# Altium footprint library MainPCB1.PcbLib: 49 footprints (part 1 of 4)
Each footprint in its own frame and in the unit in brackets; x right, y up, seen from the top. Pads: shape width x height; smd on the part's side, far side on the other; paste and mask are expansions set on the pad; w line width, h text height; cw(c..) or ccw(c..) is an arc to the next point about the centre after c.
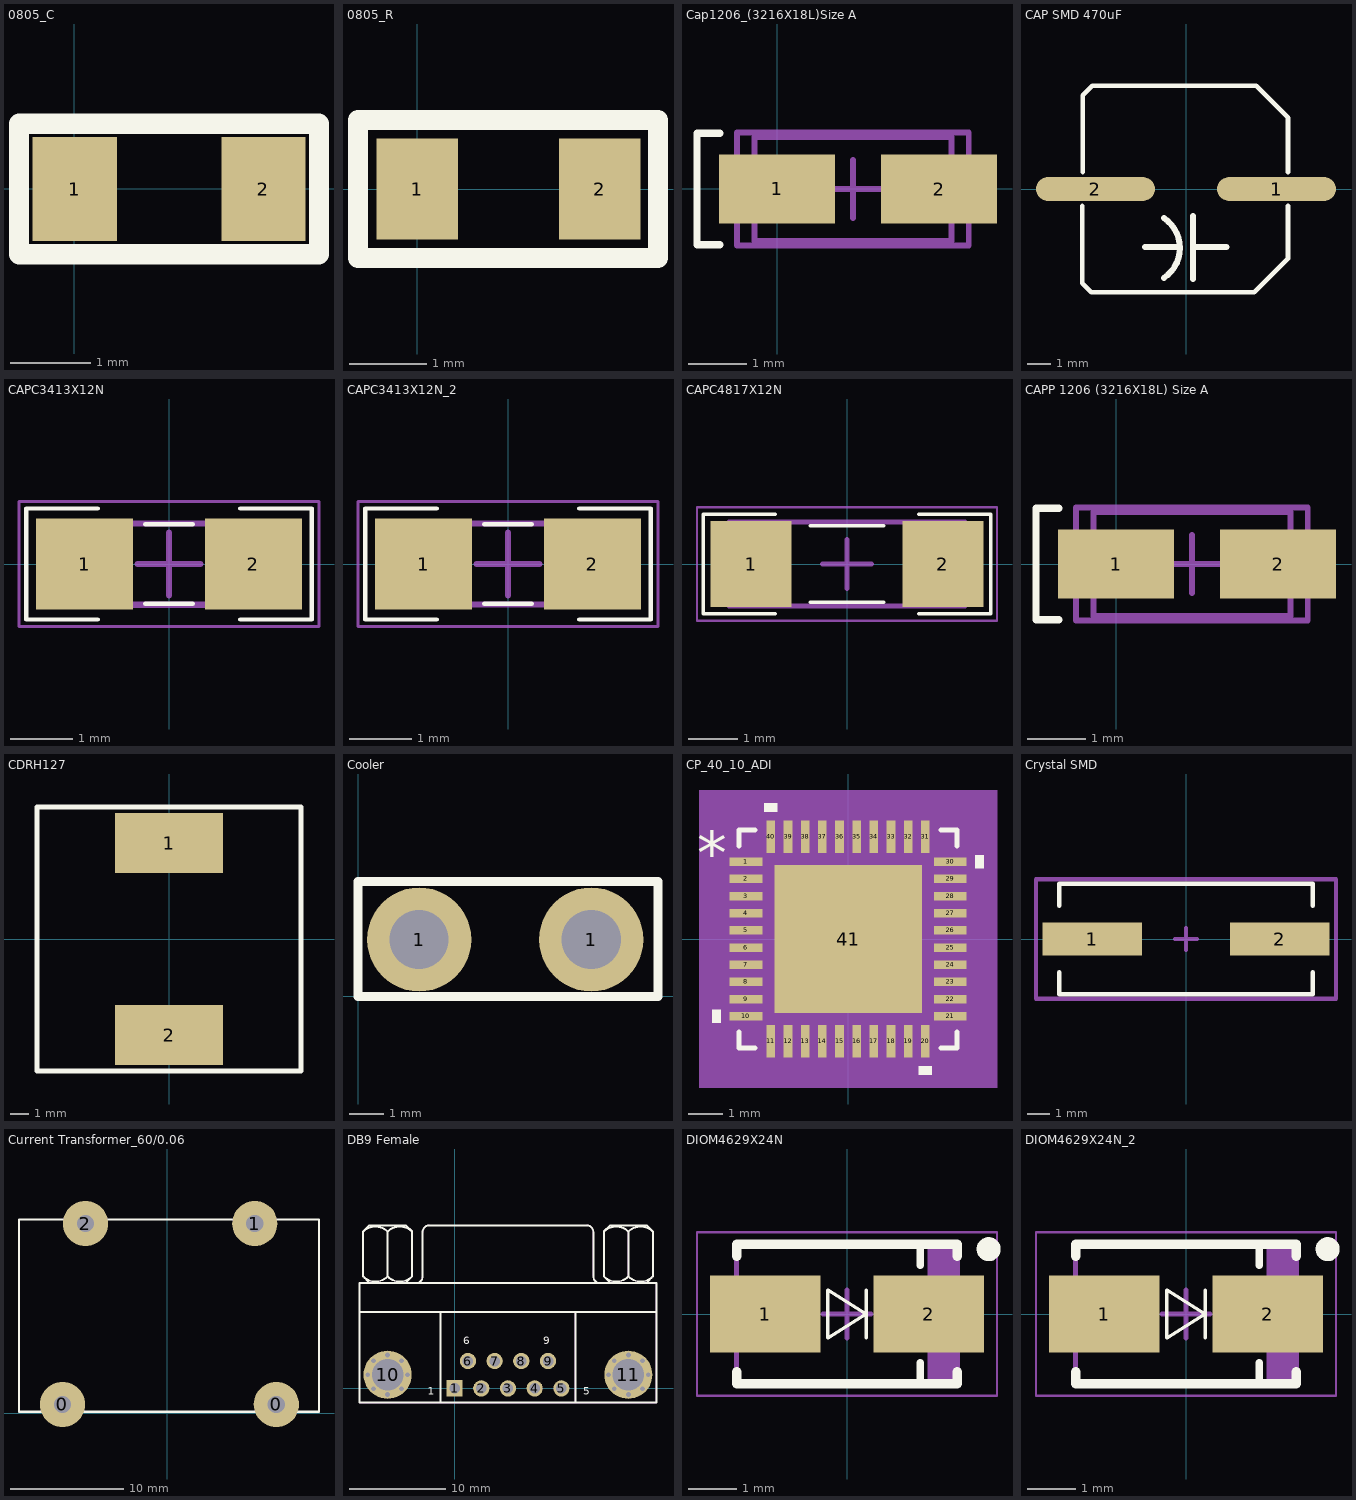
[diagram p0: the footprints below, top view; thin cyan lines are the x and y axes]

## 0805_C [mm]
pads (2):
  rect 1.05x1.3 smd: 1(0.007,0) 2(2.357,0)
Top Overlay:
  lines w0.254: -0.686,-0.813 -0.686,0.813 3.048,0.813 3.048,-0.813 -0.686,-0.813
3D body "SW3dPS-0805 SMD Capacitor.STEP": height 0.78, standoff 0, extent 0.194,-0.625 2.194,0.625

## 0805_R [mm]
pads (2):
  rect 1.05x1.3 smd: 1(0,0) 2(2.35,0)
Top Overlay:
  lines w0.254: -0.762,-0.889 3.099,-0.889 3.099,0.889 -0.762,0.889 -0.762,-0.889
3D body "User Library-RES_2013-0805.STEP": height 0.76, standoff 0, extent 0.069,-0.675 2.369,0.675

## Cap1206_(3216X18L)Size A [mm] "Chip Capacitor, 2-Leads, Body 3.2x1.6mm, IPC High Density, chip Tantalum"
height 1.8
pads (2):
  rect 1.999x1.199 smd: 1(0,0) 2(2.8,0)
Top Overlay:
  lines w0.127: -0.988,-0.965 -1.382,-0.965 -1.382,0.965 -0.988,0.965
Mechanical 13:
  lines w0.1: -0.389,-0.9 3.011,-0.9 3.011,0.9 -0.389,0.9 -0.389,-0.9
Mechanical 15:
  lines w0.1: 0.811,0 1.811,0 ; 1.311,-0.5 1.311,0.5 ; -0.689,-0.975 -0.689,0.975 3.311,0.975 3.311,-0.975 -0.689,-0.975
3D body "SW3dPS-Solid Tantalum Chip Capacitor Size (A-3216-18).STEP": height 1.8, standoff 0, extent -0.429,-0.902 3.21,0.902

## CAP SMD 470uF [mm] "SMD CAP 470uF"
pads (2):
  oval 5x1 smd: 1(3.81,0) 2(-3.81,0)
Top Overlay:
  lines w0.2: -4.369,-0.711 -4.369,-3.962 -3.988,-4.343 2.87,-4.343 4.293,-2.921 4.293,-0.711 ; -4.343,0.711 -4.343,3.937 -3.937,4.343 2.946,4.343 4.293,2.997 4.293,0.711
  lines w0.254: -1.715,-2.447 -0.365,-2.447 ; -0.935,-3.737 ccw(c-1.753,-2.48) -0.927,-1.227 ; 0.285,-3.777 0.285,-1.137 ; 0.365,-2.447 1.705,-2.447
3D body "User Library-SMD Polymer Aluminum Electrolytic Capacitors E12 470uF 6,3V.step": height 12, standoff 0.05, extent -4.53,-4.15 4.47,4.15

## CAPC3413X12N [mm] "Chip Capacitor, 2-Leads, Body 3/40x1/30mm, IPC Medium Density-Design:Abbas Basereh"
height 1.2
pads (2):
  rect 1.55x1.45 smd: 1(-1.35,0) 2(1.35,0)
Top Overlay:
  lines w0.07: -1.143,-0.889 -2.286,-0.889 -2.286,0.889 -1.143,0.889 ; -0.381,-0.635 0.381,-0.635 ; -0.381,0.635 0.381,0.635 ; 1.143,-0.889 2.286,-0.889 2.286,0.889 1.143,0.889
Mechanical 13:
  lines w0.1: -1.7,-0.65 1.7,-0.65 1.7,0.65 -1.7,0.65 -1.7,-0.65
Mechanical 15:
  lines w0.05: -2.4,-1 2.4,-1 2.4,1 -2.4,1 -2.4,-1
  lines w0.1: -0.5,0 0.5,0 ; 0,-0.5 0,0.5
3D body "SW3dPS-0805 SMD Capacitor.STEP": height 0.78, standoff 0, extent -1,-0.625 1,0.625

## CAPC3413X12N_2 [mm]
pads (2):
  rect 1.55x1.45 smd: 1(-1.35,0) 2(1.35,0)
Top Overlay:
  lines w0.07: -1.143,-0.889 -2.286,-0.889 -2.286,0.889 -1.143,0.889 ; -0.381,-0.635 0.381,-0.635 ; -0.381,0.635 0.381,0.635 ; 1.143,-0.889 2.286,-0.889 2.286,0.889 1.143,0.889
Mechanical 13:
  lines w0.1: -1.7,-0.65 -1.7,0.65 1.7,0.65 1.7,-0.65 -1.7,-0.65
Mechanical 15:
  lines w0.05: -2.4,-1 -2.4,1 2.4,1 2.4,-1 -2.4,-1
  lines w0.1: -0.5,0 0.5,0 ; 0,-0.5 0,0.5
3D body "SW3dPS-0805 SMD Capacitor.STEP": height 0.78, standoff 0, extent -1,-0.625 1,0.625

## CAPC4817X12N [mm] "Chip Capacitor, 2-Leads, Body 4/80x1/70mm, IPC Medium Density-Design:Abbas Basereh"
height 1.2
pads (2):
  rect 1.65x1.75 smd: 1(-1.95,0) 2(1.95,0)
Top Overlay:
  lines w0.07: -1.46,-1.016 -2.921,-1.016 -2.921,1.016 -1.46,1.016 ; -0.75,-0.775 0.75,-0.775 ; -0.75,0.775 0.75,0.775 ; 1.46,-1.016 2.921,-1.016 2.921,1.016 1.46,1.016
Mechanical 13:
  lines w0.1: -2.4,-0.85 -2.4,0.85 2.4,0.85 2.4,-0.85 -2.4,-0.85
Mechanical 15:
  lines w0.05: -3.05,-1.15 -3.05,1.15 3.05,1.15 3.05,-1.15 -3.05,-1.15
  lines w0.1: -0.5,0 0.5,0 ; 0,-0.5 0,0.5
3D body "SW3dPS-1206 SMD Capacitor.STEP": height 1, standoff 0, extent -1.6,-0.8 1.6,0.8

## CAPP 1206 (3216X18L) Size A [mm] "Chip Capacitor, 2-Leads, Body 3.2x1.6mm, IPC High Density, chip Tantalum"
height 1.8
pads (2):
  rect 1.999x1.199 smd: 1(0,0) 2(2.8,0)
Top Overlay:
  lines w0.127: -0.988,-0.965 -1.382,-0.965 -1.382,0.965 -0.988,0.965
Mechanical 13:
  lines w0.1: -0.389,-0.9 -0.389,0.9 3.011,0.9 3.011,-0.9 -0.389,-0.9
Mechanical 15:
  lines w0.1: 0.811,0 1.811,0 ; 1.311,-0.5 1.311,0.5 ; -0.689,-0.975 3.311,-0.975 3.311,0.975 -0.689,0.975 -0.689,-0.975
3D body "SW3dPS-Solid Tantalum Chip Capacitor Size (A-3216-18).STEP": height 1.8, standoff 0, extent -0.429,-0.902 3.21,0.902

## CDRH127 [mm]
height 10
pads (2):
  rect 5.715x3.175 smd: 1(0,5.08) 2(0,-5.08)
Top Overlay:
  lines w0.254: -6.985,-6.985 -6.985,6.985 6.985,6.985 6.985,-6.985 -6.985,-6.985
3D body "CDRH125_LD.step": height 6.23, standoff -0.02, extent -6,-6.171 6,6.171

## Cooler [mm]
pads (2):
  round 3 hole 1.7: 1(1.762,1.635) 1(6.715,1.635)
Top Overlay:
  lines w0.254: 0,0 0,3.302 8.636,3.302 8.636,0 0,0
3D body "1.stp": height 10.5, standoff -4, extent 0.068,1.397 8.568,1.897

## CP_40_10_ADI [mm]
pads (41):
  rect 0.948x0.25 smd paste+0 mask+0: 1(-2.974,2.25) 2(-2.974,1.75) 3(-2.974,1.25) 4(-2.974,0.75) 5(-2.974,0.25) 6(-2.974,-0.25) 7(-2.974,-0.75) 8(-2.974,-1.25) 9(-2.974,-1.75) 10(-2.974,-2.25) 21(2.974,-2.25) 22(2.974,-1.75) 23(2.974,-1.25) 24(2.974,-0.75) 25(2.974,-0.25) 26(2.974,0.25) 27(2.974,0.75) 28(2.974,1.25) 29(2.974,1.75) 30(2.974,2.25)
  rect 0.25x0.948 smd paste+0 mask+0: 11(-2.25,-2.974) 12(-1.75,-2.974) 13(-1.25,-2.974) 14(-0.75,-2.974) 15(-0.25,-2.974) 16(0.25,-2.974) 17(0.75,-2.974) 18(1.25,-2.974) 19(1.75,-2.974) 20(2.25,-2.974) 31(2.25,2.974) 32(1.75,2.974) 33(1.25,2.974) 34(0.75,2.974) 35(0.25,2.974) 36(-0.25,2.974) 37(-0.75,2.974) 38(-1.25,2.974) 39(-1.75,2.974) 40(-2.25,2.974)
  rect 4.3x4.3 smd paste-2.137 mask+0: 41(0,0)
Top Overlay:
  region: -3.702,-2.06 -3.956,-2.06 -3.956,-2.441 -3.702,-2.441
  region: 2.441,-3.702 2.06,-3.702 2.06,-3.956 2.441,-3.956
  region: 3.702,2.441 3.956,2.441 3.956,2.06 3.702,2.06
  region: -2.06,3.702 -2.441,3.702 -2.441,3.956 -2.06,3.956
  lines w0.152: -3.175,-2.708 -3.175,-3.175 -2.708,-3.175 ; -3.175,2.708 -3.175,3.175 -2.708,3.175 ; 2.708,-3.175 3.175,-3.175 3.175,-2.708 ; 2.708,3.175 3.175,3.175 3.175,2.708
  text "*" at -4.4,1.865 h1.27
Top Paste:
  region: -0.817,2.05 -2.05,2.05 -2.05,0.817 -0.817,0.817
  region: -0.817,0.617 -2.05,0.617 -2.05,-0.617 -0.817,-0.617
  region: -0.817,-0.817 -2.05,-0.817 -2.05,-2.05 -0.817,-2.05
  region: 0.617,2.05 -0.617,2.05 -0.617,0.817 0.617,0.817
  region: 0.617,0.617 -0.617,0.617 -0.617,-0.617 0.617,-0.617
  region: 0.617,-0.817 -0.617,-0.817 -0.617,-2.05 0.617,-2.05
  region: 2.05,2.05 0.817,2.05 0.817,0.817 2.05,0.817
  region: 2.05,0.617 0.817,0.617 0.817,-0.617 2.05,-0.617
  region: 2.05,-0.817 0.817,-0.817 0.817,-2.05 2.05,-2.05
Mechanical 5:
  region: 4.337,-4.337 -4.337,-4.337 -4.337,4.337 4.337,4.337
Mechanical 13:
  lines w0.025: -3.048,1.778 -1.778,3.048 ; -3.048,-3.048 3.048,-3.048 3.048,3.048 -3.048,3.048 -3.048,-3.048 ; -3.048,-2.4 -3.048,-2.1 -3.048,-2.4 ; -3.048,-1.9 -3.048,-1.6 -3.048,-1.9 ; -3.048,-1.4 -3.048,-1.1 -3.048,-1.4 ; -3.048,-0.9 -3.048,-0.6 -3.048,-0.9 ; -3.048,-0.4 -3.048,-0.1 -3.048,-0.4 ; -3.048,0.1 -3.048,0.4 -3.048,0.1 ; -3.048,0.6 -3.048,0.9 -3.048,0.6 ; -3.048,1.1 -3.048,1.4 -3.048,1.1 ; -3.048,1.6 -3.048,1.9 -3.048,1.6 ; -3.048,2.1 -3.048,2.4 -3.048,2.1 ; -2.4,-3.048 -2.1,-3.048 -2.4,-3.048 ; -2.4,3.048 -2.1,3.048 -2.4,3.048 ; -1.9,-3.048 -1.6,-3.048 -1.9,-3.048 ; -1.9,3.048 -1.6,3.048 -1.9,3.048 ; -1.4,-3.048 -1.1,-3.048 -1.4,-3.048 ; -1.4,3.048 -1.1,3.048 -1.4,3.048 ; -0.9,-3.048 -0.6,-3.048 -0.9,-3.048 ; -0.9,3.048 -0.6,3.048 -0.9,3.048 ; -0.4,-3.048 -0.1,-3.048 -0.4,-3.048 ; -0.4,3.048 -0.1,3.048 -0.4,3.048 ; 0.1,-3.048 0.4,-3.048 0.1,-3.048 ; 0.1,3.048 0.4,3.048 0.1,3.048 ; 0.6,-3.048 0.9,-3.048 0.6,-3.048 ; 0.6,3.048 0.9,3.048 0.6,3.048 ; 1.1,-3.048 1.4,-3.048 1.1,-3.048 ; 1.1,3.048 1.4,3.048 1.1,3.048 ; 1.6,-3.048 1.9,-3.048 1.6,-3.048 ; 1.6,3.048 1.9,3.048 1.6,3.048 ; 2.1,-3.048 2.4,-3.048 2.1,-3.048 ; 2.1,3.048 2.4,3.048 2.1,3.048 ; 3.048,-2.4 3.048,-2.1 3.048,-2.4 ; 3.048,-1.9 3.048,-1.6 3.048,-1.9 ; 3.048,-1.4 3.048,-1.1 3.048,-1.4 ; 3.048,-0.9 3.048,-0.6 3.048,-0.9 ; 3.048,-0.4 3.048,-0.1 3.048,-0.4 ; 3.048,0.1 3.048,0.4 3.048,0.1 ; 3.048,0.6 3.048,0.9 3.048,0.6 ; 3.048,1.1 3.048,1.4 3.048,1.1 ; 3.048,1.6 3.048,1.9 3.048,1.6 ; 3.048,2.1 3.048,2.4 3.048,2.1
  text "*" at -2.818,1.865 h1.27
Mechanical 15:
  region: -2.883,-3.556 -3.556,-3.556 -3.556,-2.883 -3.956,-2.883 -3.956,2.883 -3.556,2.883 -3.556,3.556 -2.883,3.556 -2.883,3.956 2.883,3.956 2.883,3.556 3.556,3.556 3.556,2.883 3.956,2.883 3.956,-2.883 3.556,-2.883 3.556,-3.556 2.883,-3.556 2.883,-3.956 -2.883,-3.956
  lines w0.152: -3.956,-2.883 -3.556,-2.883 -3.556,-3.556 -2.883,-3.556 -2.883,-3.956 2.883,-3.956 2.883,-3.556 3.556,-3.556 3.556,-2.883 3.956,-2.883 3.956,2.883 3.556,2.883 3.556,3.556 2.883,3.556 2.883,3.956 -2.883,3.956 -2.883,3.556 -3.556,3.556 -3.556,2.883 -3.956,2.883 -3.956,-2.883
3D body "CP_40_10_ADI.step": height 0.8, standoff 0, extent -3.048,-3.048 3.048,3.048

## Crystal SMD [mm] "DESIGNER ABBAS BASEREH"
height 4
pads (2):
  rect 4.5x1.5 smd: 1(-4.25,0) 2(4.25,0)
Top Overlay:
  lines w0.2: -5.75,-1.5 -5.75,-2.5 5.75,-2.5 5.75,-1.5 ; -5.75,1.5 -5.75,2.5 5.75,2.5 5.75,1.5
Mechanical 15:
  lines w0.2: -0.5,0 0.5,0 ; 0,-0.5 0,0.5 ; -6.8,-2.7 -6.8,2.7 6.8,2.7 6.8,-2.7 -6.8,-2.7
3D body "User Library-HC49_SMD.STEP": height 5.18, standoff 0, extent -6.209,-2.25 6.091,2.25

## Current Transformer_60/0.06 [mil]
pads (4):
  round 157.48 hole 60: 0(-365,30) 0(380,30) 1(305,660) 2(-285,660)
Top Overlay:
  lines w7.87: -516.41,4.16 526.9,4.16 ; -516.41,4.87 -516.41,674.16 526.9,674.16 ; 528.59,4.87 528.59,674.16
3D body "12.stp": height 1122.2, standoff -145.67, extent -511.65,5 531.65,678.28

## DB9 Female [mm] "Connector; D Subminiature AMPLIMITE 2000; 9 Position; Right Angle"
height 12.75
pads (27):
  rect 1.69x1.69 hole 1.09: 1(0,0)
  round 1.69 hole 1.09: 2(2.77,0) 3(5.54,0) 4(8.31,0) 5(11.08,0) 6(1.385,2.84) 7(4.155,2.84) 8(6.925,2.84) 9(9.695,2.84)
  round 0.8 hole 0.5 mask+0.102: 10(-9.015,1.42) 10(-8.412,-0.037) 10(-8.412,2.877) 10(-6.955,-0.64) 10(-6.955,3.48) 10(-5.498,-0.037) 10(-5.498,2.877) 10(-4.895,1.42) 11(15.975,1.42) 11(16.578,-0.037) 11(16.578,2.877) 11(18.035,-0.64) 11(18.035,3.48) 11(19.492,-0.037) 11(19.492,2.877) 11(20.095,1.42)
  round 5 hole 3.26 mask+0.102: 10(-6.955,1.42) 11(18.035,1.42)
Top Overlay:
  lines w0.2: -9.86,7.92 20.94,7.92 ; -9.498,16.27 -9.498,11.619 -8.863,10.984 ; -9.498,16.285 -8.863,16.92 -5.053,16.92 -4.418,16.285 ; -6.958,11.619 -6.958,16.27 ; -5.053,10.984 -4.418,11.619 -4.418,16.27 ; -4.418,15.006 -4.418,15.218 ; -4.02,10.925 ccw(c-4.02,11.62) -3.325,11.62 -3.325,16.22 ; -3.32,16.225 cw(c-2.625,16.225) -2.625,16.92 13.705,16.92 cw(c13.705,16.225) 14.4,16.225 ; -1.46,-1.48 -1.46,7.92 ; 12.54,-1.48 12.54,7.92 ; 14.405,16.22 14.405,11.62 ccw(c15.1,11.62) 15.1,10.925 ; 15.502,16.27 15.502,11.619 16.137,10.984 ; 15.502,16.285 16.137,16.92 19.947,16.92 20.582,16.285 ; 18.042,11.619 18.042,16.27 ; 19.947,10.984 20.582,11.619 20.582,16.27 ; 20.582,15.006 20.582,15.218 ; -9.86,-1.48 20.94,-1.48 20.94,10.92 -9.86,10.92 -9.86,-1.48
  lines w0.203: -9.5,11.617 ccw(c-8.228,12.889) -6.956,11.617 ; -9.498,16.27 cw(c-8.226,14.998) -6.953,16.27 ; -6.962,16.27 cw(c-5.69,14.998) -4.418,16.27 ; -6.96,11.617 ccw(c-5.688,12.889) -4.416,11.617 ; 15.5,11.617 ccw(c16.772,12.889) 18.044,11.617 ; 15.502,16.27 cw(c16.774,14.998) 18.047,16.27 ; 18.038,16.27 cw(c19.31,14.998) 20.582,16.27 ; 18.04,11.617 ccw(c19.312,12.889) 20.584,11.617
  text "1" at -2.794,-0.64 h0.8
  text "5" at 13.335,-0.64 h0.8
  text "9" at 9.2,4.6 h0.8
  text "6" at 0.9,4.6 h0.8
Mechanical 1:
  lines w0.1: -4.02,10.925 ccw(c-4.02,11.62) -3.325,11.62 ; -3.32,16.225 cw(c-2.625,16.225) -2.625,16.92 ; 13.705,16.92 cw(c13.705,16.225) 14.4,16.225 ; 14.405,11.62 ccw(c15.1,11.62) 15.1,10.925
Mechanical 13:
  lines w0.1: -9.86,7.92 20.94,7.92 ; -9.5,11.617 ccw(c-8.228,12.889) -6.956,11.617 ; -9.498,16.285 -8.863,16.92 -5.053,16.92 -4.418,16.285 ; -8.863,10.984 -9.498,11.619 -9.498,16.27 cw(c-8.226,14.998) -6.953,16.27 ; -6.962,16.27 cw(c-5.69,14.998) -4.418,16.27 -4.418,11.619 -5.053,10.984 ; -6.96,11.617 ccw(c-5.688,12.889) -4.416,11.617 ; -6.958,11.619 -6.958,16.27 ; -4.418,15.006 -4.418,15.218 ; -3.325,11.62 -3.325,16.22 ; -2.625,16.92 13.705,16.92 ; -1.46,-1.48 -1.46,7.92 ; 12.54,-1.48 12.54,7.92 ; 14.405,11.62 14.405,16.22 ; 15.5,11.617 ccw(c16.772,12.889) 18.044,11.617 ; 15.502,16.285 16.137,16.92 19.947,16.92 20.582,16.285 ; 16.137,10.984 15.502,11.619 15.502,16.27 cw(c16.774,14.998) 18.047,16.27 ; 18.038,16.27 cw(c19.31,14.998) 20.582,16.27 20.582,11.619 19.947,10.984 ; 18.04,11.617 ccw(c19.312,12.889) 20.584,11.617 ; 18.042,11.619 18.042,16.27 ; 20.582,15.006 20.582,15.218 ; -9.86,-1.48 20.94,-1.48 20.94,10.92 -9.86,10.92 -9.86,-1.48
3D body "9-PIN_DSUB-1.STEP": height 12.71, standoff -3.01, extent -9.865,-2.034 20.945,17.041

## DIOM4629X24N [mm] "Molded Diode, 2-Leads, Body 4/60x2/90mm, IPC Medium Density-Design:Abbas Basereh"
height 2.43
pads (2):
  rect 2.3x1.6 smd: 1(-1.7,0) 2(1.7,0)
Top Overlay:
  circle w0.25: c2.95,1.35 r0.125
  lines w0.07: 0.4,-0.5 0.4,0.5 ; -0.4,-0.5 -0.4,0.5 0.4,0 -0.4,-0.5
  lines w0.15: 1.524,-1.45 1.524,-1.016 ; 1.524,1.016 1.524,1.397
  lines w0.2: -2.3,-1.2 -2.3,-1.45 2.3,-1.45 2.3,-1.2 ; -2.3,1.2 -2.3,1.45 2.3,1.45 2.3,1.2
Mechanical 13:
  rectangle: 1.681,-1.45 2.3,1.45
  lines w0.1: -2.3,-1.45 -2.3,1.45 2.3,1.45 2.3,-1.45 -2.3,-1.45
Mechanical 15:
  lines w0.05: -3.125,-1.7 -3.125,1.7 3.125,1.7 3.125,-1.7 -3.125,-1.7
  lines w0.1: -0.5,0 0.5,0 ; 0,-0.5 0,0.5
3D body "User Library-DO-214AC_SMA.STEP": height 2.2, standoff 0, extent -2.5,-1.223 2.5,1.477

## DIOM4629X24N_2 [mm]
pads (2):
  rect 2.3x1.6 smd: 1(-1.7,0) 2(1.7,0)
Top Overlay:
  circle w0.25: c2.95,1.35 r0.125
  lines w0.07: 0.4,-0.5 0.4,0.5 ; -0.4,-0.5 -0.4,0.5 0.4,0 -0.4,-0.5
  lines w0.15: 1.524,-1.45 1.524,-1.016 ; 1.524,1.016 1.524,1.397
  lines w0.2: -2.3,-1.2 -2.3,-1.45 2.3,-1.45 2.3,-1.2 ; -2.3,1.2 -2.3,1.45 2.3,1.45 2.3,1.2
Mechanical 13:
  rectangle: 1.681,-1.45 2.3,1.45
  lines w0.1: -2.3,-1.45 -2.3,1.45 2.3,1.45 2.3,-1.45 -2.3,-1.45
Mechanical 15:
  lines w0.05: -3.125,-1.7 -3.125,1.7 3.125,1.7 3.125,-1.7 -3.125,-1.7
  lines w0.1: -0.5,0 0.5,0 ; 0,-0.5 0,0.5
3D body "User Library-DO-214AC_SMA.STEP": height 2.2, standoff 0, extent -2.5,-1.223 2.5,1.477